# Altium footprint library BL-SBZ8503C2703RA.PcbLib: 1 footprints
Each footprint in its own frame and in the unit in brackets; x right, y up, seen from the top. Pads: shape width x height; smd on the part's side, far side on the other; paste and mask are expansions set on the pad; w line width, h text height; cw(c..) or ccw(c..) is an arc to the next point about the centre after c.
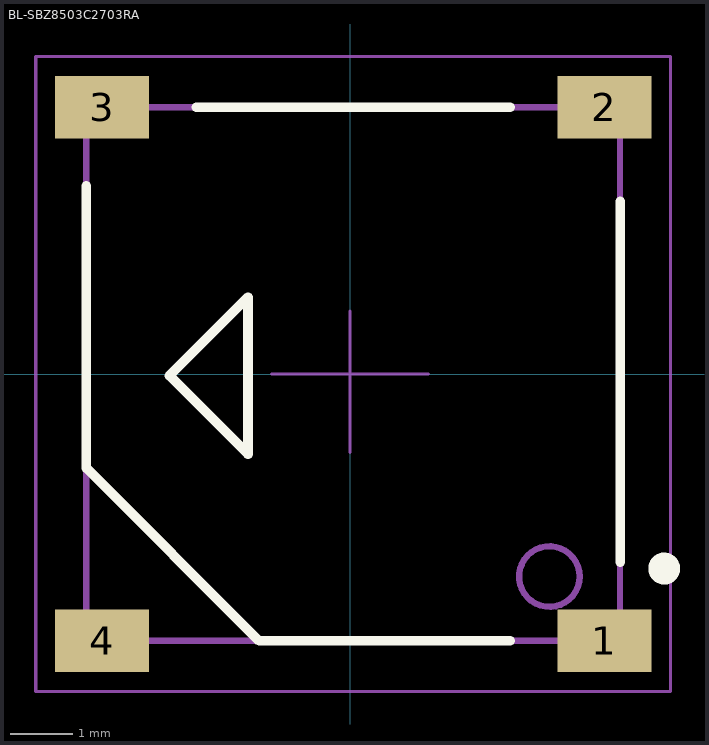
[diagram p0: the footprint, top view; thin cyan lines are the x and y axes]

## BL-SBZ8503C2703RA [mm]
height 3
pads (4):
  rect 1.5x1 smd: 1(4.051,-4.25) 2(4.051,4.25) 3(-3.949,4.25) 4(-3.949,-4.25)
Top Overlay:
  circle w0.254: c5.004,-3.099 r0.127
  lines w0.152: -4.199,3 -4.199,-1.5 -1.449,-4.25 2.551,-4.25 ; -2.449,4.25 2.551,4.25 ; 4.301,-3 4.301,2.75 ; -2.875,-0.026 -1.625,1.224 -1.625,-1.276 -2.875,-0.026
Mechanical 13:
  circle w0.1: c3.175,-3.226 r0.482
  lines w0.1: -4.199,-4.25 4.301,-4.25 4.301,-4 4.301,4.25 -4.199,4.25 -4.199,-4.25
Mechanical 15:
  lines w0.05: -5.005,5.055 -5.005,-5.055 5.105,-5.055 5.105,5.055 ; -5.005,5.055 5.105,5.055 ; -1.25,0 1.25,0 ; 0,-1.25 0,1
3D body: height 2.81, standoff 0, extent -4.25,-4.25 4.25,4.25